# Altium footprint library BEC-230.PcbLib: 2 footprints
Each footprint in its own frame and in the unit in brackets; x right, y up, seen from the top. Pads: shape width x height; smd on the part's side, far side on the other; paste and mask are expansions set on the pad; w line width, h text height; cw(c..) or ccw(c..) is an arc to the next point about the centre after c.
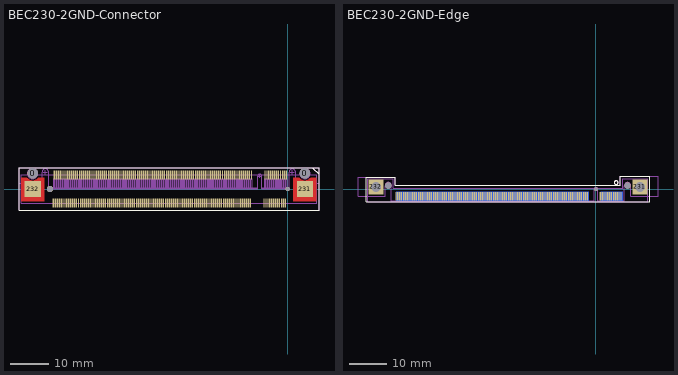
[diagram p0: the footprints below, top view; thin cyan lines are the x and y axes]

## BEC230-2GND-Connector [mm]
height 8
pads (236):
  round 2.7 hole 2.7 unplated: 0(-65.95,4.05) 0(4.45,4.05)
  round 1.6 hole 1.6 unplated: 0(-61.5,0)
  round 1.1 hole 1.1 unplated: 0(0,0)
  rect 0.35x2.3 smd mask+0: 1(-0.36,3.65) 2(-0.61,-3.65) 3(-0.86,3.65) 4(-1.11,-3.65) 5(-1.36,3.65) 6(-1.61,-3.65) 7(-1.86,3.65) 8(-2.11,-3.65) 9(-2.36,3.65) 10(-2.61,-3.65) 11(-2.86,3.65) 12(-3.11,-3.65) 13(-3.36,3.65) 14(-3.61,-3.65) 15(-3.86,3.65) 16(-4.11,-3.65) 17(-4.36,3.65) 18(-4.61,-3.65) 19(-4.86,3.65) 20(-5.11,-3.65) 21(-5.36,3.65) 22(-5.61,-3.65) 23(-5.86,3.65) 24(-6.11,-3.65) 25(-9.36,3.65) 26(-9.61,-3.65) 27(-9.86,3.65) 28(-10.11,-3.65) 29(-10.36,3.65) 30(-10.61,-3.65) 31(-10.86,3.65) 32(-11.11,-3.65) 33(-11.36,3.65) 34(-11.61,-3.65) 35(-11.86,3.65) 36(-12.11,-3.65) 37(-12.36,3.65) 38(-12.61,-3.65) 39(-12.86,3.65) 40(-13.11,-3.65) 41(-13.36,3.65) 42(-13.61,-3.65) 43(-13.86,3.65) 44(-14.11,-3.65) 45(-14.36,3.65) 46(-14.61,-3.65) 47(-14.86,3.65) 48(-15.11,-3.65) 49(-15.36,3.65) 50(-15.61,-3.65) 51(-15.86,3.65) 52(-16.11,-3.65) 53(-16.36,3.65) 54(-16.61,-3.65) 55(-16.86,3.65) 56(-17.11,-3.65) 57(-17.36,3.65) 58(-17.61,-3.65) 59(-17.86,3.65) 60(-18.11,-3.65) 61(-18.36,3.65) 62(-18.61,-3.65) 63(-18.86,3.65) 64(-19.11,-3.65) 65(-19.36,3.65) 66(-19.61,-3.65) 67(-19.86,3.65) 68(-20.11,-3.65) 69(-20.36,3.65) 70(-20.61,-3.65) 71(-20.86,3.65) 72(-21.11,-3.65) 73(-21.36,3.65) 74(-21.61,-3.65) 75(-21.86,3.65) 76(-22.11,-3.65) 77(-22.36,3.65) 78(-22.61,-3.65) 79(-22.86,3.65) 80(-23.11,-3.65) 81(-23.36,3.65) 82(-23.61,-3.65) 83(-23.86,3.65) 84(-24.11,-3.65) 85(-24.36,3.65) 86(-24.61,-3.65) 87(-24.86,3.65) 88(-25.11,-3.65) 89(-25.36,3.65) 90(-25.61,-3.65) 91(-25.86,3.65) 92(-26.11,-3.65) 93(-26.36,3.65) 94(-26.61,-3.65) 95(-26.86,3.65) 96(-27.11,-3.65) 97(-27.36,3.65) 98(-27.61,-3.65) 99(-27.86,3.65) 100(-28.11,-3.65) 101(-28.36,3.65) 102(-28.61,-3.65) 103(-28.86,3.65) 104(-29.11,-3.65) 105(-29.36,3.65) 106(-29.61,-3.65) 107(-29.86,3.65) 108(-30.11,-3.65) 109(-30.36,3.65) 110(-30.61,-3.65) 111(-30.86,3.65) 112(-31.11,-3.65) 113(-31.36,3.65) 114(-31.61,-3.65) 115(-31.86,3.65) 116(-32.11,-3.65) 117(-32.36,3.65) 118(-32.61,-3.65) 119(-32.86,3.65) 120(-33.11,-3.65) 121(-33.36,3.65) 122(-33.61,-3.65) 123(-33.86,3.65) 124(-34.11,-3.65) 125(-34.36,3.65) 126(-34.61,-3.65) 127(-34.86,3.65) 128(-35.11,-3.65) 129(-35.36,3.65) 130(-35.61,-3.65) 131(-35.86,3.65) 132(-36.11,-3.65) 133(-36.36,3.65) 134(-36.61,-3.65) 135(-36.86,3.65) 136(-37.11,-3.65) 137(-37.36,3.65) 138(-37.61,-3.65) 139(-37.86,3.65) 140(-38.11,-3.65) 141(-38.36,3.65) 142(-38.61,-3.65) 143(-38.86,3.65) 144(-39.11,-3.65) 145(-39.36,3.65) 146(-39.61,-3.65) 147(-39.86,3.65) 148(-40.11,-3.65) 149(-40.36,3.65) 150(-40.61,-3.65) 151(-40.86,3.65) 152(-41.11,-3.65) 153(-41.36,3.65) 154(-41.61,-3.65) 155(-41.86,3.65) 156(-42.11,-3.65) 157(-42.36,3.65) 158(-42.61,-3.65) 159(-42.86,3.65) 160(-43.11,-3.65) 161(-43.36,3.65) 162(-43.61,-3.65) 163(-43.86,3.65) 164(-44.11,-3.65) 165(-44.36,3.65) 166(-44.61,-3.65) 167(-44.86,3.65) 168(-45.11,-3.65) 169(-45.36,3.65) 170(-45.61,-3.65) 171(-45.86,3.65) 172(-46.11,-3.65) 173(-46.36,3.65) 174(-46.61,-3.65) 175(-46.86,3.65) 176(-47.11,-3.65) 177(-47.36,3.65) 178(-47.61,-3.65) 179(-47.86,3.65) 180(-48.11,-3.65) 181(-48.36,3.65) 182(-48.61,-3.65) 183(-48.86,3.65) 184(-49.11,-3.65) 185(-49.36,3.65) 186(-49.61,-3.65) 187(-49.86,3.65) 188(-50.11,-3.65) 189(-50.36,3.65) 190(-50.61,-3.65) 191(-50.86,3.65) 192(-51.11,-3.65) 193(-51.36,3.65) 194(-51.61,-3.65) 195(-51.86,3.65) 196(-52.11,-3.65) 197(-52.36,3.65) 198(-52.61,-3.65) 199(-52.86,3.65) 200(-53.11,-3.65) 201(-53.36,3.65) 202(-53.61,-3.65) 203(-53.86,3.65) 204(-54.11,-3.65) 205(-54.36,3.65) 206(-54.61,-3.65) 207(-54.86,3.65) 208(-55.11,-3.65) 209(-55.36,3.65) 210(-55.61,-3.65) 211(-55.86,3.65) 212(-56.11,-3.65) 213(-56.36,3.65) 214(-56.61,-3.65) 215(-56.86,3.65) 216(-57.11,-3.65) 217(-57.36,3.65) 218(-57.61,-3.65) 219(-57.86,3.65) 220(-58.11,-3.65) 221(-58.36,3.65) 222(-58.61,-3.65) 223(-58.86,3.65) 224(-59.11,-3.65) 225(-59.36,3.65) 226(-59.61,-3.65) 227(-59.86,3.65) 228(-60.11,-3.65) 229(-60.36,3.65) 230(-60.61,-3.65)
  rect 4.2x4.2 smd: 231(4.45,0) 232(-65.95,0)
Top Layer:
  region: 1.45,-3.203 7.45,-3.203 7.45,2.95 5.939,2.949 5.764,2.736 5.483,2.505 5.161,2.333 4.813,2.227 4.45,2.191 4.087,2.227 3.738,2.333 3.417,2.505 3.135,2.736 2.96,2.949 2.962,2.95 1.45,2.95
  region: -68.96,-3.203 -62.96,-3.203 -62.96,2.95 -64.47,2.949 -64.645,2.736 -64.927,2.505 -65.248,2.333 -65.597,2.227 -65.96,2.191 -66.322,2.227 -66.671,2.333 -66.993,2.505 -67.274,2.736 -67.449,2.949 -67.447,2.95 -68.96,2.95
Top Overlay:
  lines w0.2: 6.5,5.4 8,3.9 ; -69.5,-5.5 -69.5,5.5 8.1,5.5 8.1,-5.5 -69.5,-5.5
Top Paste:
  rectangle: 1.8,-2.9 7.1,2.1
  rectangle: -68.6,-2.9 -63.3,2.1
Top Solder:
  region: -68.955,-3.203 -68.955,2.95 -67.445,2.949 -67.27,2.736 -66.988,2.504 -66.667,2.333 -66.318,2.227 -65.956,2.191 -65.593,2.227 -65.244,2.333 -64.923,2.504 -64.641,2.736 -64.466,2.949 -64.468,2.95 -62.955,2.95 -62.955,-3.203
  region: 1.455,-3.203 1.455,2.95 2.965,2.949 3.14,2.736 3.422,2.504 3.743,2.333 4.092,2.227 4.455,2.191 4.817,2.227 5.166,2.333 5.487,2.504 5.769,2.736 5.944,2.949 5.942,2.95 7.455,2.95 7.455,-3.203
Mechanical 13:
  lines w0.2: -68.955,-3.7 7.455,-3.7 7.455,3.7 -68.955,3.7 -68.955,-3.7
Mechanical 15:
  drawing of 625 lines, arcs and shapes, not listed
  text "1" at -0.5,3 h1.2
  text "2" at -1,-2.25 h1.2
  text "24" at -7.25,-2.25 h1.2
  text "26" at -10.75,-2.25 h1.2
  text "25" at -10.25,3 h1.2
  text "229" at -61.5,3 h1.2
  text "230" at -62.25,-2.25 h1.2
  text "GND2" at -68.25,-2.25 h1.2
  text "GND1" at 2.5,-2.25 h1.2
3D body: height 8, standoff 0.5, extent -68.955,-3.7 7.455,3.7

## BEC230-2GND-Edge [mm]
height 0.1
pads (235):
  round 1.7 hole 1.7 unplated: 0(-55.38,1) 0(8.43,1)
  round 1 hole 1 unplated: 0(0,0)
  rect 0.35x2.3 smd far side paste-1 mask+0: 1(6.92,-1.85) 3(6.42,-1.85) 5(5.92,-1.85) 7(5.42,-1.85) 9(4.92,-1.85) 11(4.42,-1.85) 13(3.92,-1.85) 15(3.42,-1.85) 17(2.92,-1.85) 19(2.42,-1.85) 21(1.92,-1.85) 23(1.42,-1.85) 25(-2.08,-1.85) 27(-2.58,-1.85) 29(-3.08,-1.85) 31(-3.58,-1.85) 33(-4.08,-1.85) 35(-4.58,-1.85) 37(-5.08,-1.85) 39(-5.58,-1.85) 41(-6.08,-1.85) 43(-6.58,-1.85) 45(-7.08,-1.85) 47(-7.58,-1.85) 49(-8.08,-1.85) 51(-8.58,-1.85) 53(-9.08,-1.85) 55(-9.58,-1.85) 57(-10.08,-1.85) 59(-10.58,-1.85) 61(-11.08,-1.85) 63(-11.58,-1.85) 65(-12.08,-1.85) 67(-12.58,-1.85) 69(-13.08,-1.85) 71(-13.58,-1.85) 73(-14.08,-1.85) 75(-14.58,-1.85) 77(-15.08,-1.85) 79(-15.58,-1.85) 81(-16.08,-1.85) 83(-16.58,-1.85) 85(-17.08,-1.85) 87(-17.58,-1.85) 89(-18.08,-1.85) 91(-18.58,-1.85) 93(-19.08,-1.85) 95(-19.58,-1.85) 97(-20.08,-1.85) 99(-20.58,-1.85) 101(-21.08,-1.85) 103(-21.58,-1.85) 105(-22.08,-1.85) 107(-22.58,-1.85) 109(-23.08,-1.85) 111(-23.58,-1.85) 113(-24.08,-1.85) 115(-24.58,-1.85) 117(-25.08,-1.85) 119(-25.58,-1.85) 121(-26.08,-1.85) 123(-26.58,-1.85) 125(-27.08,-1.85) 127(-27.58,-1.85) 129(-28.08,-1.85) 131(-28.58,-1.85) 133(-29.08,-1.85) 135(-29.58,-1.85) 137(-30.08,-1.85) 139(-30.58,-1.85) 141(-31.08,-1.85) 143(-31.58,-1.85) 145(-32.08,-1.85) 147(-32.58,-1.85) 149(-33.08,-1.85) 151(-33.58,-1.85) 153(-34.08,-1.85) 155(-34.58,-1.85) 157(-35.08,-1.85) 159(-35.58,-1.85) 161(-36.08,-1.85) 163(-36.58,-1.85) 165(-37.08,-1.85) 167(-37.58,-1.85) 169(-38.08,-1.85) 171(-38.58,-1.85) 173(-39.08,-1.85) 175(-39.58,-1.85) 177(-40.08,-1.85) 179(-40.58,-1.85) 181(-41.08,-1.85) 183(-41.58,-1.85) 185(-42.08,-1.85) 187(-42.58,-1.85) 189(-43.08,-1.85) 191(-43.58,-1.85) 193(-44.08,-1.85) 195(-44.58,-1.85) 197(-45.08,-1.85) 199(-45.58,-1.85) 201(-46.08,-1.85) 203(-46.58,-1.85) 205(-47.08,-1.85) 207(-47.58,-1.85) 209(-48.08,-1.85) 211(-48.58,-1.85) 213(-49.08,-1.85) 215(-49.58,-1.85) 217(-50.08,-1.85) 219(-50.58,-1.85) 221(-51.08,-1.85) 223(-51.58,-1.85) 225(-52.08,-1.85) 227(-52.58,-1.85) 229(-53.08,-1.85)
  rect 0.35x2.3 smd paste-1 mask+0: 2(6.67,-1.85) 4(6.17,-1.85) 6(5.67,-1.85) 8(5.17,-1.85) 10(4.67,-1.85) 12(4.17,-1.85) 14(3.67,-1.85) 16(3.17,-1.85) 18(2.67,-1.85) 20(2.17,-1.85) 22(1.67,-1.85) 24(1.17,-1.85) 26(-2.33,-1.85) 28(-2.83,-1.85) 30(-3.33,-1.85) 32(-3.83,-1.85) 34(-4.33,-1.85) 36(-4.83,-1.85) 38(-5.33,-1.85) 40(-5.83,-1.85) 42(-6.33,-1.85) 44(-6.83,-1.85) 46(-7.33,-1.85) 48(-7.83,-1.85) 50(-8.33,-1.85) 52(-8.83,-1.85) 54(-9.33,-1.85) 56(-9.83,-1.85) 58(-10.33,-1.85) 60(-10.83,-1.85) 62(-11.33,-1.85) 64(-11.83,-1.85) 66(-12.33,-1.85) 68(-12.83,-1.85) 70(-13.33,-1.85) 72(-13.83,-1.85) 74(-14.33,-1.85) 76(-14.83,-1.85) 78(-15.33,-1.85) 80(-15.83,-1.85) 82(-16.33,-1.85) 84(-16.83,-1.85) 86(-17.33,-1.85) 88(-17.83,-1.85) 90(-18.33,-1.85) 92(-18.83,-1.85) 94(-19.33,-1.85) 96(-19.83,-1.85) 98(-20.33,-1.85) 100(-20.83,-1.85) 102(-21.33,-1.85) 104(-21.83,-1.85) 106(-22.33,-1.85) 108(-22.83,-1.85) 110(-23.33,-1.85) 112(-23.83,-1.85) 114(-24.33,-1.85) 116(-24.83,-1.85) 118(-25.33,-1.85) 120(-25.83,-1.85) 122(-26.33,-1.85) 124(-26.83,-1.85) 126(-27.33,-1.85) 128(-27.83,-1.85) 130(-28.33,-1.85) 132(-28.83,-1.85) 134(-29.33,-1.85) 136(-29.83,-1.85) 138(-30.33,-1.85) 140(-30.83,-1.85) 142(-31.33,-1.85) 144(-31.83,-1.85) 146(-32.33,-1.85) 148(-32.83,-1.85) 150(-33.33,-1.85) 152(-33.83,-1.85) 154(-34.33,-1.85) 156(-34.83,-1.85) 158(-35.33,-1.85) 160(-35.83,-1.85) 162(-36.33,-1.85) 164(-36.83,-1.85) 166(-37.33,-1.85) 168(-37.83,-1.85) 170(-38.33,-1.85) 172(-38.83,-1.85) 174(-39.33,-1.85) 176(-39.83,-1.85) 178(-40.33,-1.85) 180(-40.83,-1.85) 182(-41.33,-1.85) 184(-41.83,-1.85) 186(-42.33,-1.85) 188(-42.83,-1.85) 190(-43.33,-1.85) 192(-43.83,-1.85) 194(-44.33,-1.85) 196(-44.83,-1.85) 198(-45.33,-1.85) 200(-45.83,-1.85) 202(-46.33,-1.85) 204(-46.83,-1.85) 206(-47.33,-1.85) 208(-47.83,-1.85) 210(-48.33,-1.85) 212(-48.83,-1.85) 214(-49.33,-1.85) 216(-49.83,-1.85) 218(-50.33,-1.85) 220(-50.83,-1.85) 222(-51.33,-1.85) 224(-51.83,-1.85) 226(-52.33,-1.85) 228(-52.83,-1.85) 230(-53.33,-1.85)
  rect 4x4 hole 2.65: 231(11.73,0.65) 232(-58.68,0.65)
Top Overlay:
  circle w0.2: c5.4,1.8 r0.5
  lines w0.2: -61.3,-3.3 -61.3,3.3 -53.5,3.3 -53.5,1.1 6.5,1.1 6.5,3.5 14.3,3.5 14.3,-3.3 -61.3,-3.3
Bottom Overlay:
  circle w0.2: c5.4,1.8 r0.5
  lines w0.2: -61.3,-3.3 14.3,-3.3 14.3,3.5 6.5,3.5 6.5,1.1 -53.5,1.1 -53.5,3.3 -61.3,3.3 -61.3,-3.3
Mechanical 13:
  lines w0.2: -60.8,-3.3 13.8,-3.3 13.8,2.9 7.1,2.9 7.1,0.3 -39.5,0.3 -54,0.3 -54,2.8 -60.8,2.8 -60.8,-3.3
Mechanical 15:
  circle w0.2: c5.4,1.8 r0.5
  lines w0.2: -54.53,-3 -0.5,-3 ; -54.53,-3 -54.53,1 ccw(c-55.38,1) -56.23,1 -56.23,-1.85 -63.45,-1.85 -63.45,3.3 -53.5,3.3 -53.5,1.1 6.5,1.1 6.5,3.5 16.55,3.5 16.55,-1.85 9.28,-1.85 9.28,1 ccw(c8.43,1) 7.58,1 7.58,-3 ; -54.53,-3 -54.53,-3.25 -0.5,-3.25 -0.5,-3 ; -0.5,-3 -0.5,0 cw(c0,0) 0.5,0 0.5,-3 ; 0.5,-3 7.58,-3 ; 0.5,-3 0.5,-3.25 7.58,-3.25 7.58,-3
  text "GND2" at -60.5,-1.25 h1
  text "GND1" at 10.25,-1.25 h1
Mechanical 16:
  circle w0.2: c5.4,1.8 r0.5
  lines w0.1: -54.53,-3 -54.53,-3.25 -0.5,-3.25 -0.5,-3 ; -54.53,-3 -54.53,1 ccw(c-55.38,1) -56.23,1 -56.23,-1.85 -63.45,-1.85 -63.45,3.3 -53.5,3.3 -53.5,1.1 6.5,1.1 6.5,3.5 16.55,3.5 16.55,-1.85 9.28,-1.85 9.28,1 ccw(c8.43,1) 7.58,1 7.58,-3 ; -54.53,-3 -0.5,-3 ; -0.5,-3 -0.5,0 cw(c0,0) 0.5,0 0.5,-3 ; 0.5,-3 0.5,-3.25 7.58,-3.25 7.58,-3 ; 0.5,-3 7.58,-3
3D body: height 5, standoff 0.1, extent -60.8,-3.3 13.8,2.9
3D body: height 1.6, standoff 0.1, extent -60.8,-3.3 13.8,2.9